# Altium footprint library 阻容.PcbLib: 23 footprints (part 1 of 2)
Each footprint in its own frame and in the unit in brackets; x right, y up, seen from the top. Pads: shape width x height; smd on the part's side, far side on the other; paste and mask are expansions set on the pad; w line width, h text height; cw(c..) or ccw(c..) is an arc to the next point about the centre after c.
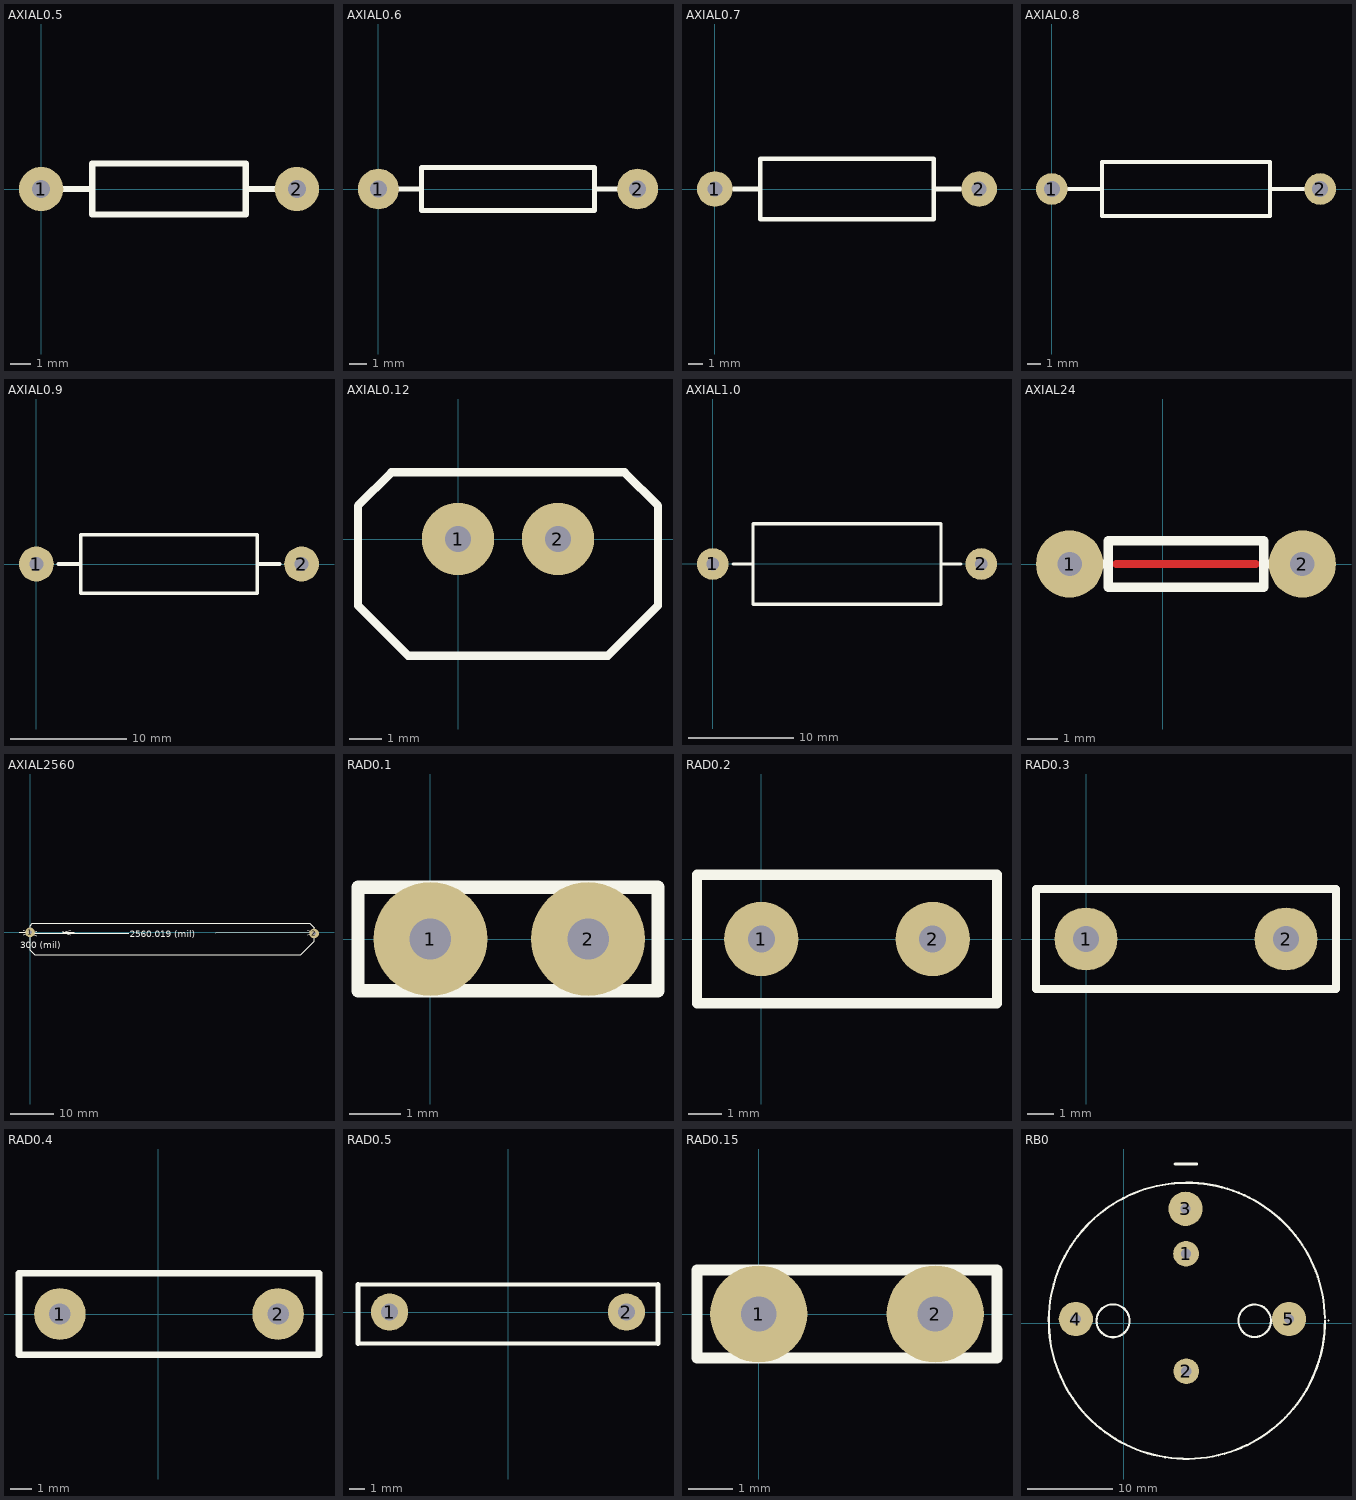
[diagram p0: the footprints below, top view; thin cyan lines are the x and y axes]

## AXIAL0.5 [mm]
pads (2):
  round 2.2 hole 0.9: 1(0,0) 2(12.7,0)
TopOverlay:
  lines w0.305: 1.016,0 2.54,0 ; 10.16,0 11.684,0 ; 2.54,-1.27 10.16,-1.27 10.16,1.27 2.54,1.27 2.54,-1.27

## AXIAL0.6 [mm]
pads (2):
  round 2.4 hole 1: 1(0,0) 2(15.24,0)
TopOverlay:
  lines w0.305: 1.016,0 2.54,0 ; 12.7,0 14.224,0 ; 2.54,-1.27 2.54,1.27 12.7,1.27 12.7,-1.27 2.54,-1.27

## AXIAL0.7 [mm]
pads (2):
  round 2.4 hole 1: 1(0,0) 2(17.78,0)
TopOverlay:
  lines w0.305: 1.27,0 3.048,0 ; 14.732,0 16.51,0 ; 3.048,-2.032 14.732,-2.032 14.732,2.032 3.048,2.032 3.048,-2.032

## AXIAL0.8 [mm]
pads (2):
  round 2.4 hole 1.2: 1(0,0) 2(20.32,0)
TopOverlay:
  lines w0.305: 1.27,0 3.81,0 ; 16.51,0 19.05,0 ; 3.81,-2.032 3.81,2.032 16.51,2.032 16.51,-2.032 3.81,-2.032

## AXIAL0.9 [mm]
pads (2):
  round 3 hole 1.2: 1(0,0) 2(22.86,0)
TopOverlay:
  lines w0.305: 1.905,0 3.81,0 ; 19.05,0 20.955,0 ; 3.81,-2.54 19.05,-2.54 19.05,2.54 3.81,2.54 3.81,-2.54

## AXIAL0.12 [mm]
pads (2):
  round 2.2 hole 0.8: 1(0,0) 2(3.048,0)
TopOverlay:
  lines w0.254: -3.048,-2.032 -1.524,-3.556 4.572,-3.556 6.096,-2.032 6.096,1.016 5.08,2.032 -2.032,2.032 -3.048,1.016 -3.048,-2.032

## AXIAL1.0 [mm]
pads (2):
  round 3 hole 1.2: 1(0,0) 2(25.4,0)
TopOverlay:
  lines w0.305: 1.905,0 3.81,0 ; 21.59,0 23.495,0 ; 3.81,-3.81 3.81,3.81 21.59,3.81 21.59,-3.81 3.81,-3.81

## AXIAL24 [mm]
pads (2):
  round 2.2 hole 0.8: 1(-3.048,0) 2(4.572,0)
TopLayer:
  lines w0.254: -1.524,0 3.048,0
TopOverlay:
  lines w0.305: -2.007,0 -1.778,0 ; 3.531,0 3.302,0 ; 3.302,0 3.302,-0.762 -1.778,-0.762 -1.778,0.762 3.302,0.762 3.302,0

## AXIAL2560 [mm]
pads (2):
  round 2.2 hole 0.8: 1(0,0) 2(65.025,-0.254)
TopOverlay:
  lines w0.254: -2.54,0 0,0 ; -1.524,-0.508 0,0 ; -1.524,0.508 0,0 ; -0.001,0 0.001,-0.508 ; 0,0.254 0,-0.254 ; 1.522,0.26 0,-0.254 ; 1.526,-0.756 0,-0.254 ; 7.62,-0.254 7.62,0.254 ; 9.144,-0.508 7.62,0 ; 9.144,0.508 7.62,0 ; 10.16,0 7.62,0 ; 22.584,-0.166 0,-0.254 ; 42.44,-0.088 65.024,0 ; 63.498,0.502 65.024,0 ; 63.502,-0.514 65.024,0 ; 65.023,0.254 65.025,-0.254 ; 0,0 0,-4.064 1.016,-5.08 61.976,-5.08 65.025,-2.031 65.025,-0.254 ; 0,0 0,1.524 0.508,2.032 64.008,2.032 65.025,1.015 65.025,-0.254
  text "2560.019 (mil)" at 22.841,-1.079 h1.52
  text "300 (mil)" at -2.309,-3.657 h1.52

## RAD0.1 [mm]
pads (2):
  round 2.2 hole 0.8: 1(0,0) 2(3.048,0)
TopOverlay:
  lines w0.254: -1.4,-1 -1.4,1 4.4,1 4.4,-1 -0.2,-1 -1.4,-1

## RAD0.2 [mm]
pads (2):
  round 2.2 hole 0.8: 1(0,0) 2(5.08,0)
TopOverlay:
  lines w0.305: -1.905,-1.905 -1.905,1.905 6.985,1.905 6.985,-1.905 -1.905,-1.905

## RAD0.3 [mm]
pads (2):
  round 2.4 hole 1: 1(0,0) 2(7.62,0)
TopOverlay:
  lines w0.305: -1.905,-1.905 -1.905,1.905 9.525,1.905 9.525,-1.905 -1.905,-1.905

## RAD0.4 [mm]
pads (2):
  round 2.4 hole 1: 1(-4.572,0) 2(5.588,0)
TopOverlay:
  lines w0.305: -6.477,-1.905 7.493,-1.905 7.493,1.905 -6.477,1.905 -6.477,-1.905

## RAD0.5 [mm]
pads (2):
  round 2.4 hole 1.1: 1(-7.62,0) 2(7.62,0)
TopOverlay:
  lines w0.254: -9.652,-2.032 9.652,-2.032 ; -9.652,1.778 9.652,1.778
  lines w0.305: -9.652,-2.032 -9.652,1.778 ; 9.652,-2.032 9.652,1.778

## RAD0.15 [mm]
pads (2):
  round 2.2 hole 0.8: 1(0,0) 2(4,0)
TopOverlay:
  lines w0.254: 4,-1 5.4,-1 5.4,1 5.2,1 4.2,1 ; 4.4,-1 -0.2,-1 -1.4,-1 -1.4,1 4.4,1

## RB0 [mm]
pads (5):
  round 3 hole 1.2: 1(7.283,8.128) 2(7.312,-5.588)
  round 4 hole 1.2: 3(7.229,13.383) 4(-5.588,0.508) 5(19.304,0.508)
TopOverlay:
  circle w0.254: c-1.25,0.3 r1.923
  lines w0.254: 17.185,0.484 ccw(c15.3,0.3) 17.194,0.3 ; 23.498,0.62 ccw(c7.375,0.3) 23.501,0.3 ; 23.899,0.338 ccw(c7.275,0.2) 23.899,0.344
  lines w0.305: 5.996,18.612 8.536,18.612